# EAGLE library part SIC431AED-T1-GE3 (library m18-to-carjack_lib v11)
Synchronous Buck Regulator Ultrasonic Adjustable 0.6V to 21.6V 24A O/P 24-Pin PowerPAK MLP44 T/R
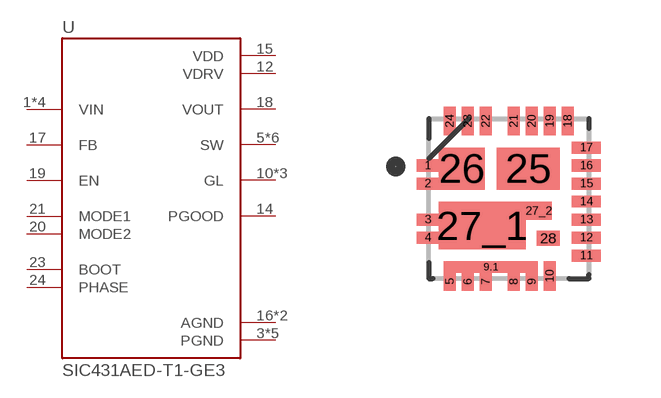
[diagram p0: symbol with the pads of POWERPAK_MLP44-24L; footprint POWERPAK_MLP44-24L]

Designator prefix U

## SIC431AED-T1-GE3 (AVAILABILITY: Good; DESCRIPTION: Synchronous Buck Regulator Ultrasonic Adjustable 0.6V to 21.6V 24A O/P 24-Pin PowerPAK MLP44 T/R; MF: Vishay Siliconix; MP: SIC431AED-T1-GE3; PACKAGE: PowerWFQFN-24 Vishay; PRICE: 1.86 USD)  [POWERPAK_MLP44-24L]
1  VIN  in
2  VIN  in
3  PGND  pwr
4  PGND  pwr
5  SW  out
6  SW  out
7  SW  out
8  SW  out
9  SW  out
9.1  SW  out
10  GL  out
11  GL  out
12  VDRV  pwr
13  PGND  pwr
14  PGOOD  out
15  VDD  pwr
16  AGND  pwr
17  FB  in
18  VOUT  out
19  EN  in
20  MODE2  in
21  MODE1  in
22  VIN  in
23  BOOT  pas
24  PHASE  pas
25  AGND  pwr
26  VIN  in
27_1  PGND  pwr
27_2  PGND  pwr
28  GL  out

## Footprint POWERPAK_MLP44-24L (pad centres in mm)
smd 0.55 x 0.3: 1 -2.025,0.825; 2 -2.025,0.375; 3 -2.025,-0.525; 4 -2.025,-0.975
smd 0.3 x 0.45: 5 -1.475,-2.075; 6 -1.025,-2.075; 7 -0.575,-2.075; 8 0.125,-2.075; 9 0.575,-2.075
smd 2.35 x 0.28: 9.1 -0.45,-1.71
smd 0.3 x 0.73: 10 1.025,-1.935
smd 0.725 x 0.3: 11 1.938,-1.425; 12 1.938,-0.975; 13 1.938,-0.525; 14 1.938,-0.075; 15 1.938,0.375; 16 1.938,0.825; 17 1.938,1.275
smd 0.3 x 0.725: 18 1.475,1.938; 19 1.025,1.938; 20 0.575,1.938; 21 0.125,1.938; 22 -0.575,1.938; 23 -1.025,1.938; 24 -1.475,1.938
smd 1.575 x 1.05: 25 0.487,0.75
smd 1.15 x 1.05: 26 -1.175,0.75
smd 2.175 x 1.2: 27_1 -0.662,-0.675
smd 0.65 x 0.455: 27_2 0.75,-0.302
smd 0.58 x 0.38: 28 0.985,-0.99